# Altium schematic symbol library GEN.SchLib: 1 symbol
Pins are listed as number, name and electrical type; pins without a type are passive.

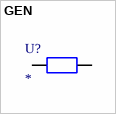
[diagram p0: symbol GEN]

## GEN
designator U?
Value: *
pins: 1, 2